# Altium integrated library PMEG4010CPA.IntLib: 1 symbol
Pins are listed as number, name and electrical type; pins without a type are passive.

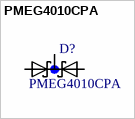
[diagram p0: symbol PMEG4010CPA]

## PMEG4010CPA
designator D?
DIODE, DUAL, SCH, 40V, 1A, SOT1061; Diode Type: Schottky; Diode Configuration: Dual, Common Cathode; Repetitive Rever...; MF: Nexperia USA; SnapEDA_Link: https://www.snapeda.com/parts/PMEG4010CPA/Nexperia%20USA%20Inc./view-part/?ref=snap; MP: PMEG4010CPA; Package: PowerUDFN-3 Nexperia USA; Digi-Key_Purchase_URL: https://www.digikey.ca/product-detail/en/nexperia-usa-inc/PMEG4010CPASX/1727-2405-1-ND/5436151?utm_source=snapeda&utm_medium=aggregator&utm_campaign=symbol; Digi-Key_Part_Number: 1727-2405-1-ND; Value: *
footprint *SOT1061
pins: 1 A1, 2 A2, 3 K1K2